# Altium footprint library LQH5BPZ.PcbLib: 1 footprints
Each footprint in its own frame and in the unit in brackets; x right, y up, seen from the top. Pads: shape width x height; smd on the part's side, far side on the other; paste and mask are expansions set on the pad; w line width, h text height; cw(c..) or ccw(c..) is an arc to the next point about the centre after c.
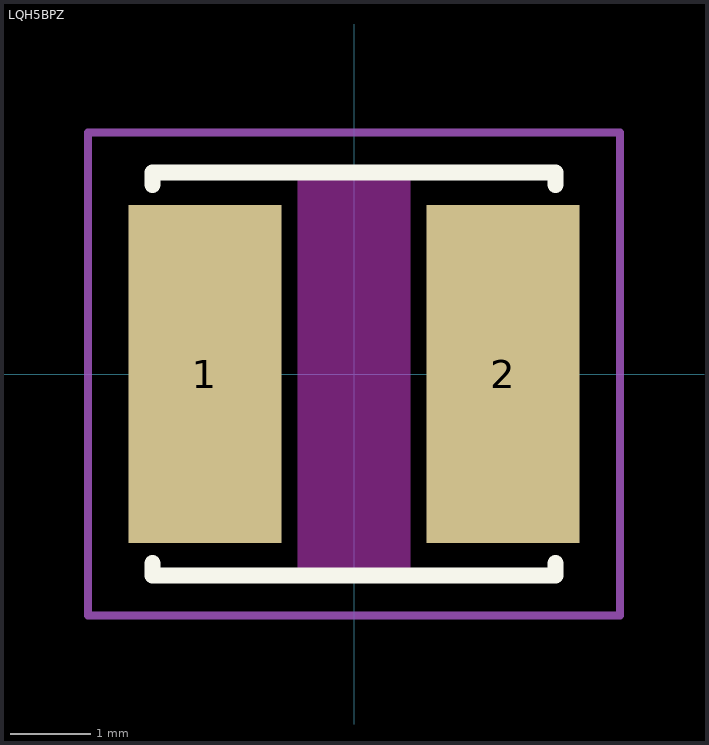
[diagram p0: the footprint, top view; thin cyan lines are the x and y axes]

## LQH5BPZ [mm]
pads (2):
  rect 1.9x4.2 smd: 1(-1.85,0) 2(1.85,0)
Top Layer keep-out:
  rectangle: -0.7,-2.5 0.7,2.5
Top Overlay:
  lines w0.2: -2.5,-2.35 -2.5,-2.5 2.5,-2.5 2.5,-2.35 ; -2.5,2.35 -2.5,2.5 2.5,2.5 2.5,2.35
Top Courtyard:
  lines w0.1: -3.3,-3 -2.5,-3 3.3,-3 3.3,3 -3.3,3 -3.3,-3
3D body "LQH5BPZ2R2NT0L.STEP": height 2.2, standoff 0, extent -2.5,-2.5 2.5,2.5